# EAGLE library part MKL03Z8VFK4 (library KL03-cortex-m0)
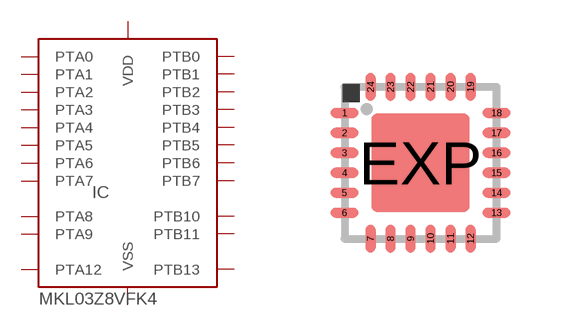
[diagram p1: symbol with the pads of QFN24-4X4; footprint QFN24-4X4]

Designator prefix IC

## MKL03Z8VFK4  [QFN24-4X4]
1  PTB6
2  PTB7
3  VDD  pwr
4  VSS
5  PTA3
6  PTA4
7  PTA5
8  PTA6
9  PTB10
10  PTB11
11  PTA7
12  PTB0
13  PTB1
14  PTB2
15  PTA8
16  PTA9
17  PTB3  oc
18  PTB4  oc
19  PTB5
20  PTA12
21  PTB13
22  PTA0
23  PTA1
24  PTA2
EXP  VSS

## Footprint QFN24-4X4 (pad centres in mm)
UF Package 24-Lead (4mm × 4mm) Plastic QFN Source: http://cds.linear.com/docs/Datasheet/5598f.pdf
smd 0.7 x 0.25: 1 -1.9,1.25; 2 -1.9,0.75; 3 -1.9,0.25; 4 -1.9,-0.25; 5 -1.9,-0.75; 6 -1.9,-1.25; 13 1.9,-1.25; 14 1.9,-0.75; 15 1.9,-0.25; 16 1.9,0.25; 17 1.9,0.75; 18 1.9,1.25
smd 0.25 x 0.7: 7 -1.25,-1.9; 8 -0.75,-1.9; 9 -0.25,-1.9; 10 0.25,-1.9; 11 0.75,-1.9; 12 1.25,-1.9; 19 1.25,1.9; 20 0.75,1.9; 21 0.25,1.9; 22 -0.25,1.9; 23 -0.75,1.9; 24 -1.25,1.9
smd 2.45 x 2.45: EXP 0,0